# Altium footprint library Sensors.PcbLib: 3 footprints
Each footprint in its own frame and in the unit in brackets; x right, y up, seen from the top. Pads: shape width x height; smd on the part's side, far side on the other; paste and mask are expansions set on the pad; w line width, h text height; cw(c..) or ccw(c..) is an arc to the next point about the centre after c.
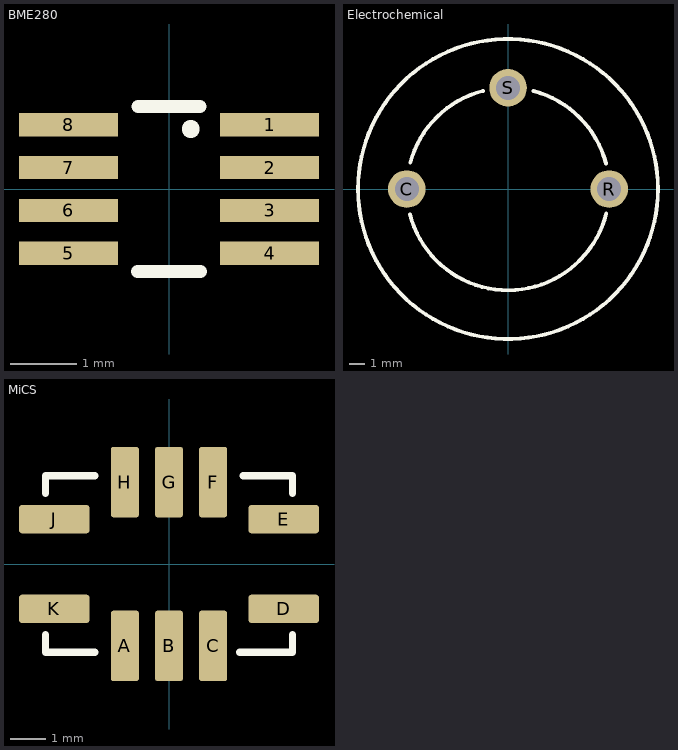
[diagram p0: the footprints below, top view; thin cyan lines are the x and y axes]

## BME280 [mm]
height 1
pads (8):
  rect 1.5x0.35 smd mask+0.08: 1(1.525,0.975) 2(1.525,0.325) 3(1.525,-0.325) 4(1.525,-0.975) 5(-1.525,-0.975) 6(-1.525,-0.325) 7(-1.525,0.325) 8(-1.525,0.975)
Top Overlay:
  circle w0.25: c0.33,0.91 r0.01
  lines w0.2: -0.48,-1.25 0.48,-1.25 ; -0.47,1.25 0,1.25 0.47,1.25
3D body "User Library-Bosch_BME280.step": height 0.95, standoff 0.02, extent -1.25,-1.25 1.25,1.25

## Electrochemical [mm]
pads (3):
  round 2.5 hole 1.6: C(-6.75,0) R(6.75,0) S(0,6.75)
Top Overlay:
  circle w0.254: c0,0 r10
  lines w0.254: -6.537,-1.684 ccw(c0,0) 6.554,-1.615 ; -6.517,1.759 cw(c0,0) -1.662,6.542 ; 1.708,6.53 cw(c0,0) 6.53,1.708
3D body: height 16.6, standoff 0, extent -10,-9.997 10,9.997

## MiCS [mm]
pads (10):
  rrect20% 0.8x2 smd: A(-1.25,-2.32) B(0,-2.32) C(1.25,-2.32) F(1.25,2.32) G(0,2.32) H(-1.25,2.32)
  rrect20% 2x0.8 smd: D(3.25,-1.27) E(3.25,1.27) J(-3.25,1.27) K(-3.25,-1.27)
Top Overlay:
  lines w0.2: -3.5,-2 -3.5,-2.5 -2.1,-2.5 ; -3.5,2 -3.5,2.5 -2.1,2.5 ; 2,-2.5 3.5,-2.5 3.5,-2 ; 2.1,2.5 3.5,2.5 3.5,2